# Altium integrated library GM-802B NH3 Sensor.IntLib: 1 symbol
Pins are listed as number, name and electrical type; pins without a type are passive.

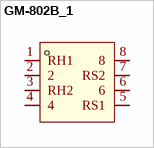
[diagram p0: symbol GM-802B_1]

## GM-802B_1
designator U?, comment GM-802B  (value not drawn)
Pin Configuration: / Winsen Electronics / Pin 1 (RH1): Heater terminal 1 / winsen-sensor.com / Pin 2: Not connected / Pin 3 (RH2): Heater terminal 2 / Pin 4: Not connected / Winsen Electronics / Pin 5 (RS1): Sensor output terminal 1 (signal) / Pin 6: Not connected / Pin 7 (RS2): Sensor output terminal 2 (signal) / Pin 8: Not connected; Add into BOM: yes; Symbol: GM-802B; Device: GM-802B; LCSC Part Name: GM-802B; Supplier Part: C9900008830; Manufacturer Part: GM-802B; Supplier Footprint: LCC-8_L5.0-W5.0-P1.27; JLCPCB Part Class: Extended Part; Supplier: LCSC; Convert to PCB: yes
footprint LCC-8_L5.0-W5.0-P1.27-BL (Pin Configuration: / Winsen Electronics / Pin 1 (RH1): Heater terminal 1 / winsen-sensor.com / Pin 2: Not connected / Pin 3 (RH2): Heater terminal 2 / Pin 4: Not connected / Winsen Electronics / Pin 5 (RS1): Sensor output terminal 1 (signal) / Pin 6: Not connected / Pin 7 (RS2): Sensor output terminal 2 (signal) / Pin 8: Not connected)
pins: 1 RH1, 2, 3 RH2, 4, 5 RS1, 6, 7 RS2, 8